# Altium schematic symbol library ZZQ_Schlib.SchLib: 86 symbols (part 1 of 3)
Pins are listed as number, name and electrical type; pins without a type are passive.

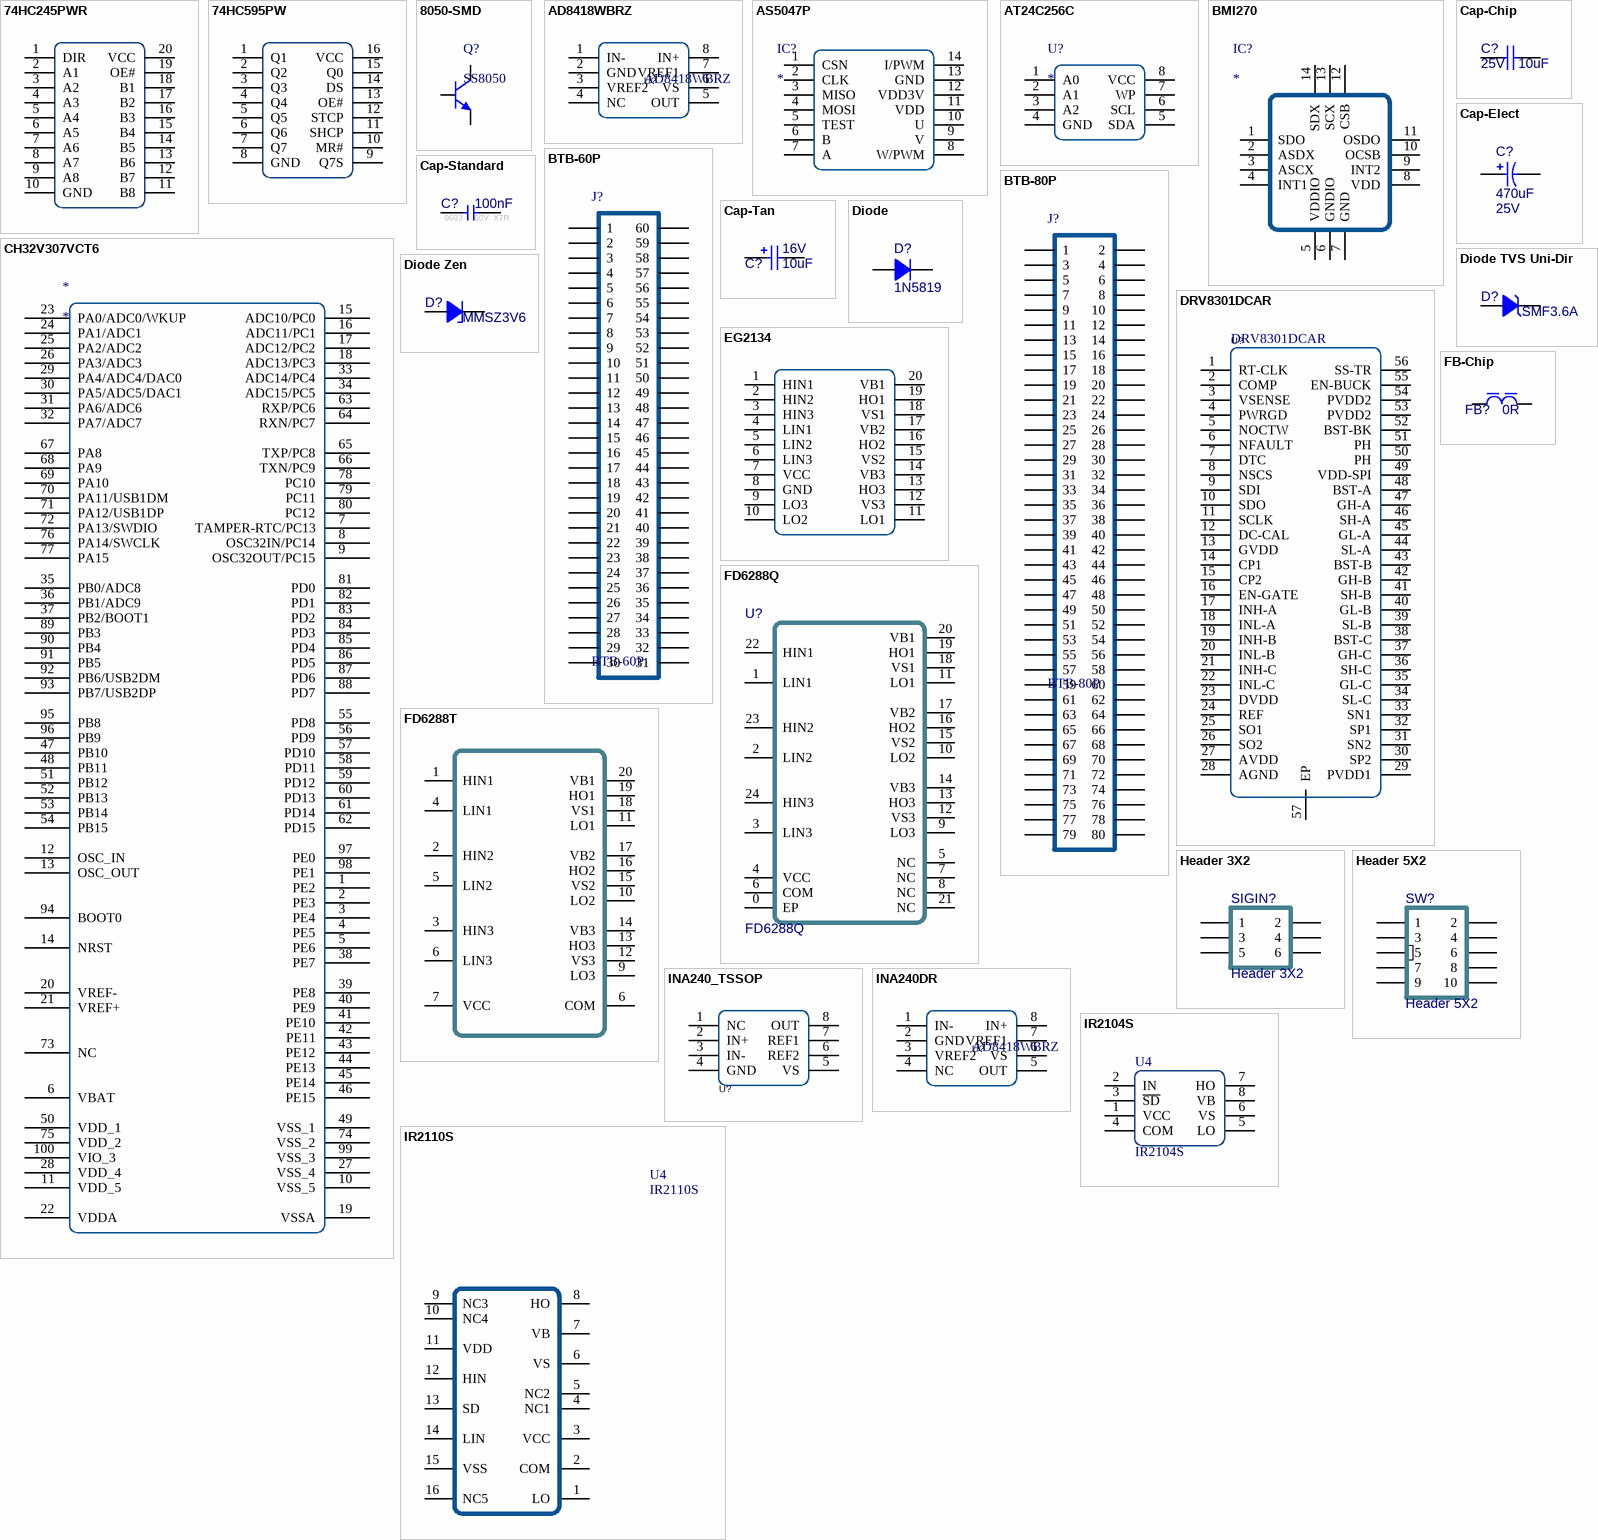
[diagram p0: symbols 74HC245PWR to IR2110S]

## 74HC245PWR
designator U7, comment 74HC595PW,118  (value not drawn)
Name: 74HC245PWR; Manufacturer Part: 74HC245PWR
footprint TSSOP20_P0.65-EP (TSOP, 20-Leads, Body 6.5x4.4mm, Pitch 0.65mm, IPC Medium Density)
pins: 1 DIR, 2 A1, 3 A2, 4 A3, 5 A4, 6 A5, 7 A6, 8 A7, 9 A8, 10 GND, 11 B8, 12 B7, 13 B6, 14 B5, 15 B4, 16 B3, 17 B2, 18 B1, 19 OE#, 20 VCC

## 74HC595PW
designator U?, comment 74HC595PW,118  (value not drawn)
Manufacturer: Nexperia(安世); Add into BOM: yes; Output Type: 三态; Function: 串行至串行或并行; Supply Voltage: 2V~6V; Name: 74HC595PW,118; Symbol: 74HC595PW,118; Device: 74HC595PW,118; LCSC Part Name: 74HC595PW,118; Supplier Part: C5948; Manufacturer Part: 74HC595PW,118; Supplier Footprint: TSSOP-16; JLCPCB Part Class: Extended Part; Datasheet: https://atta.szlcsc.com/upload/public/pdf/source/20180816/C5948_F1853EC44A4F17655997C4FF6169FA63.pdf; Supplier: LCSC; Convert to PCB: yes; Series: 74HC; Operating Temperature: -40℃~+125℃
pins: 1 Q1, 2 Q2, 3 Q3, 4 Q4, 5 Q5, 6 Q6, 7 Q7, 8 GND, 9 Q7S, 10 MR#, 11 SHCP, 12 STCP, 13 OE#, 14 DS, 15 Q0, 16 VCC

## 8050-SMD
designator Q?, comment SS8050
高频放大-NPN型; 参数: 40V 1.5A 1W 100MHZ; 联系下单店铺卖家 免费帮你查找封装: 联系下单店铺卖家 免费技术支持; BOM名称: 高频放大-NPN型
pins: 1 B, 2 E, 3 C

## AD8418WBRZ
designator U?
Manufacturer: ADI(亚德诺)/LINEAR(凌特); Name: AD8418BRMZ; Add into BOM: yes; Symbol: AD8418BRMZ; Device: AD8418BRMZ; LCSC Part Name: AD8418BRMZ; Supplier Part: C107356; Manufacturer Part: AD8418BRMZ; Supplier Footprint: MSOP-8; JLCPCB Part Class: Extended Part; Datasheet: https://atta.szlcsc.com/upload/public/pdf/source/20180126/C107356_15169557868681308826.pdf; Supplier: LCSC; Convert to PCB: yes
footprint LC-SOP-8_150mil
pins: 1 IN-, 2 GND, 3 VREF2, 4 NC, 5 OUT, 6 VS, 7 VREF1, 8 IN+

## AS5047P
designator IC?
Integrated Circuit; Manufacturer_Name: ams OSRAM; Manufacturer_Part_Number: AS5047P-ATSM; Datasheet Link: https://datasheet.datasheetarchive.com/originals/distributors/DKDS-7/120640.pdf; Height: 1.2mm; Mouser Part Number: 985-AS5047P-ATSM; Mouser Price/Stock: https://www.mouser.co.uk/ProductDetail/ams-OSRAM/AS5047P-ATSM?qs=cGEy3R83DS8fzNOVLHtOgg%3D%3D; Arrow Part Number: AS5047P-ATSM; Arrow Price/Stock: https://www.arrow.com/en/products/as5047p-atsm/ams-osram?region=nac
footprint AS5047P (Footprint not found)
pins: 1 CSN, 2 CLK, 3 MISO, 4 MOSI, 5 TEST, 6 B, 7 A, 8 W/PWM, 9 V, 10 U, 11 VDD, 12 VDD3V, 13 GND, 14 I/PWM

## AT24C256C
designator U?
footprint LC-SOIC-8_150mil
pins: 1 A0 (power) "Output for the regulator. A small capacitor (total typical capacitance >= 2.0uF ceramic) is needed from this pin to ground to assure stability.", 2 A1 (power) "Output for the regulator. A small capacitor (total typical capacitance >= 2.0uF ceramic) is needed from this pin to ground to assure stability.", 3 A2 (power) "Output for the regulator. A small capacitor (total typical capacitance >= 2.0uF ceramic) is needed from this pin to ground to assure stability.", 4 GND (power) "Output for the regulator. A small capacitor (total typical capacitance >= 2.0uF ceramic) is needed from this pin to ground to assure stability.", 5 SDA (power) "Output for the regulator. A small capacitor (total typical capacitance >= 2.0uF ceramic) is needed from this pin to ground to assure stability.", 6 SCL (power) "Output for the regulator. A small capacitor (total typical capacitance >= 2.0uF ceramic) is needed from this pin to ground to assure stability.", 7 WP (power) "Output for the regulator. A small capacitor (total typical capacitance >= 2.0uF ceramic) is needed from this pin to ground to assure stability.", 8 VCC (power) "Output for the regulator. A small capacitor (total typical capacitance >= 2.0uF ceramic) is needed from this pin to ground to assure stability."

## BMI270
designator IC?
Integrated Circuit; Manufacturer_Name: BOSCH; Manufacturer_Part_Number: BMI270; Datasheet Link: https://www.mouser.de/datasheet/2/783/BST-BMI270-FL000-1530947.pdf; Height: 0.87mm; Mouser Part Number: 262-BMI270; Mouser Price/Stock: https://www.mouser.co.uk/ProductDetail/Bosch-Sensortec/BMI270?qs=u16ybLDytRYIj%252BjQEee88A%3D%3D; Arrow Part Number: BMI270; Arrow Price/Stock: https://www.arrow.com/en/products/bmi270/bosch?region=nac
footprint QFN50P300X250X87-14N
pins: 1 SDO, 2 ASDX, 3 ASCX, 4 INT1, 5 VDDIO, 6 GNDIO, 7 GND, 8 VDD, 9 INT2, 10 OCSB, 11 OSDO, 12 CSB, 13 SCX, 14 SDX

## BTB-60P
designator J?
footprint 3710F060046G3FT01 (PIN:0.8mm;SOP;FEMALE)
pins: 1, 2, 3, 4, 5, 6, 7, 8, 9, 10, 11, 12, 13, 14, 15, 16, 17, 18, 19, 20, 21, 22, 23, 24, 25, 26, 27, 28, 29, 30, 31, 32, 33, 34, 35, 36, 37, 38, 39, 40, 41, 42, 43, 44, 45, 46, 47, 48, 49, 50, 51, 52, 53, 54, 55, 56, 57, 58, 59, 60

## BTB-80P
designator J?
pins: 1, 2, 3, 4, 5, 6, 7, 8, 9, 10, 11, 12, 13, 14, 15, 16, 17, 18, 19, 20, 21, 22, 23, 24, 25, 26, 27, 28, 29, 30, 31, 32, 33, 34, 35, 36, 37, 38, 39, 40, 41, 42, 43, 44, 45, 46, 47, 48, 49, 50, 51, 52, 53, 54, 55, 56, 57, 58, 59, 60, 61, 62, 63, 64, 65, 66, 67, 68, 69, 70, 71, 72, 73, 74, 75, 76, 77, 78, 79, 80

## Cap-Chip
designator C?, comment value 10uF  Voltage: 25V  (hidden comment: 10uF ±10% 25V)
贴片电容; Published: 2020-12-18; Revision: V1.1; Tolerance: ±10%
pins: 1, 2

## Cap-Elect
designator C?, comment value 470uF  Voltage: 25V  (hidden comment: 470uF 25V)
Polarized Capacitor (Radial); Published: 8-Jun-2000; Revision: July-2002: Re-released for DXP Platform.; Publisher: Altium Limited; Price(RMB): 0.000
pins: 1, 2

## Cap-Standard
designator C?, comment value 100nF  FootPrint: 0603  Voltage: 50V  Type: X7R  (hidden comment: 100nF 50V X7R)
贴片瓷片电容; MLCC; 0603(1608);; Revision: V1.0
pins: 1, 2

## Cap-Tan
designator C?, comment value 10uF  Voltage: 16V  (hidden comment: 10uF 16V)
Tantalum Capacitor; Published: 8-Jun-2000; Revision: July-2002: Re-released for DXP Platform.; Publisher: Altium Limited; Price(RMB): 0.000
pins: 1, 2

## CH32V307VCT6
designator *
pins: 1 PE2, 2 PE3, 3 PE4, 4 PE5, 5 PE6, 6 VBAT, 7 TAMPER-RTC/PC13, 8 OSC32IN/PC14, 9 OSC32OUT/PC15, 10 VSS_5, 11 VDD_5, 12 OSC_IN, 13 OSC_OUT, 14 NRST, 15 ADC10/PC0, 16 ADC11/PC1, 17 ADC12/PC2, 18 ADC13/PC3, 19 VSSA, 20 VREF-, 21 VREF+, 22 VDDA, 23 PA0/ADC0/WKUP, 24 PA1/ADC1, 25 PA2/ADC2, 26 PA3/ADC3, 27 VSS_4, 28 VDD_4, 29 PA4/ADC4/DAC0, 30 PA5/ADC5/DAC1, 31 PA6/ADC6, 32 PA7/ADC7, 33 ADC14/PC4, 34 ADC15/PC5, 35 PB0/ADC8, 36 PB1/ADC9, 37 PB2/BOOT1, 38 PE7, 39 PE8, 40 PE9, 41 PE10, 42 PE11, 43 PE12, 44 PE13, 45 PE14, 46 PE15, 47 PB10, 48 PB11, 49 VSS_1, 50 VDD_1, 51 PB12, 52 PB13, 53 PB14, 54 PB15, 55 PD8, 56 PD9, 57 PD10, 58 PD11, 59 PD12, 60 PD13, 61 PD14, 62 PD15, 63 RXP/PC6, 64 RXN/PC7, 65 TXP/PC8, 66 TXN/PC9, 67 PA8, 68 PA9, 69 PA10, 70 PA11/USB1DM, 71 PA12/USB1DP, 72 PA13/SWDIO, 73 NC, 74 VSS_2, 75 VDD_2, 76 PA14/SWCLK, 77 PA15, 78 PC10, 79 PC11, 80 PC12, 81 PD0, 82 PD1, 83 PD2, 84 PD3, 85 PD4, 86 PD5, 87 PD6, 88 PD7, 89 PB3, 90 PB4, 91 PB5, 92 PB6/USB2DM, 93 PB7/USB2DP, 94 BOOT0, 95 PB8, 96 PB9, 97 PE0, 98 PE1, 99 VSS_3, 100 VIO_3

## Diode
designator D?, comment 1N5819
普通二极管 Diode; Imax: 500mA; Published: 8-Jun-2000; Revision: July-2002: Re-released for DXP Platform.; Publisher: Altium Limited; Price(RMB): 0.000
pins: 1, 2

## Diode TVS Uni-Dir
designator D?, comment SMF3.6A
TRANSIENT VOLTAGE  SUPPRESSOR DIODE; Imax: 500mA; Published: 8-Jun-2000; Publisher: Altium Limited; Price(RMB): 0.000
pins: 1, 2

## Diode Zen
designator D?, comment MMSZ3V6
稳压二极管 齐纳二极管  Zener Diode; Published: 8-Jun-2000; Revision: July-2002: Re-released for DXP Platform.; Publisher: Altium Limited; Price(RMB): 0.000
pins: 1, 2

## DRV8301DCAR
designator U?
Manufacturer: TI(德州仪器); Add into BOM: yes; Supply Voltage: 6V~60V; Interface: SPI,STEP/DIR; Name: DRV8301DCAR; Symbol: DRV8301DCAR; Device: DRV8301DCAR; LCSC Part Name: DRV8301DCAR; Supplier Part: C98969; Manufacturer Part: DRV8301DCAR; Supplier Footprint: HTSSOP-56-6mm; JLCPCB Part Class: Extended Part; Datasheet: https://atta.szlcsc.com/upload/public/pdf/source/20180716/C98969_BB8CF07B1892F5E66C75CBC0D9FDECDB.pdf; Supplier: LCSC; Convert to PCB: yes; Type: 无刷直流BLDC; Output Current: -; Operating Temperature: -40℃~+125℃@(Ta)
pins: 1 RT-CLK, 2 COMP, 3 VSENSE, 4 PWRGD, 5 NOCTW, 6 NFAULT, 7 DTC, 8 NSCS, 9 SDI, 10 SDO, 11 SCLK, 12 DC-CAL, 13 GVDD, 14 CP1, 15 CP2, 16 EN-GATE, 17 INH-A, 18 INL-A, 19 INH-B, 20 INL-B, 21 INH-C, 22 INL-C, 23 DVDD, 24 REF, 25 SO1, 26 SO2, 27 AVDD, 28 AGND, 29 PVDD1, 30 SP2, 31 SN2, 32 SP1, 33 SN1, 34 SL-C, 35 GL-C, 36 SH-C, 37 GH-C, 38 BST-C, 39 SL-B, 40 GL-B, 41 SH-B, 42 GH-B, 43 BST-B, 44 SL-A, 45 GL-A, 46 SH-A, 47 GH-A, 48 BST-A, 49 VDD-SPI, 50 PH, 51 PH, 52 BST-BK, 53 PVDD2, 54 PVDD2, 55 EN-BUCK, 56 SS-TR, 57 EP

## EG2134
designator ?  (value not drawn)
Symbol: EG2134_C480661; Designer: U?; Device: EG2134_C480661
pins: 1 HIN1, 2 HIN2, 3 HIN3, 4 LIN1, 5 LIN2, 6 LIN3, 7 VCC, 8 GND, 9 LO3, 10 LO2, 11 LO1, 12 VS3, 13 HO3, 14 VB3, 15 VS2, 16 HO2, 17 VB2, 18 VS1, 19 HO1, 20 VB1

## FB-Chip
designator FB?, comment value 0R  (hidden comment: 0R @100MHz 300mA)
贴片磁珠; DCR: .1m; Published: 2020-12-18; Revision: V1.0; Frequency: @100MHz; Imax: 300mA
pins: 1, 2

## FD6288Q
designator U?
FD6288Q 三相栅极驱动器
footprint FD6288Q (24脚，长x宽x高：4x4x1mm，脚距：0.5mm)
pins: 0 EP, 1 LIN1, 2 LIN2, 3 LIN3, 4 VCC, 5 NC, 6 COM, 7 NC, 8 NC, 9 LO3, 10 LO2, 11 LO1, 12 VS3, 13 HO3, 14 VB3, 15 VS2, 16 HO2, 17 VB2, 18 VS1, 19 HO1, 20 VB1, 21 NC, 22 HIN1, 23 HIN2, 24 HIN3

## FD6288T
designator U?  (value not drawn)
Manufacturer: Fortior Tech(峰岹); Symbol: FD6288; Add into BOM: yes; Device: FD6288T; Supplier: LCSC; Manufacturer Part: FD6288T; Supplier Part: C97683; JLCPCB Part Class: Extended Part; LCSC Part Name: FD6288T; Supplier Footprint: TSSOP-20; Datasheet: https://atta.szlcsc.com/upload/public/pdf/source/20180912/C97683_ECE58C9DF7F061C95E95DF4276B152DC.pdf; Convert to PCB: yes
footprint FD6288T
pins: 1 HIN1, 2 HIN2, 3 HIN3, 4 LIN1, 5 LIN2, 6 LIN3, 6 COM, 7 VCC, 9 LO3, 10 LO2, 11 LO1, 12 VS3, 13 HO3, 14 VB3, 15 VS2, 16 HO2, 17 VB2, 18 VS1, 19 HO1, 20 VB1

## Header 3X2
designator SIGIN?
Header, 3-Pin, Dual row; LatestRevisionDate: 17-Jul-2002; LatestRevisionNote: Re-released for DXP Platform.; Publisher: Altium Limited; Price(RMB): 0.00
pins: 1, 2, 3, 4, 5, 6

## Header 5X2
designator SW?
Header, 5-Pin, Dual row; LatestRevisionDate: 17-Jul-2002; LatestRevisionNote: Re-released for DXP Platform.; Publisher: Altium Limited; Price(RMB): 0.00
pins: 1, 2, 3, 4, 5, 6, 7, 8, 9, 10

## INA240_TSSOP
designator U?  (value not drawn)
Manufacturer: ADI(亚德诺)/LINEAR(凌特); Name: AD8418BRMZ; Add into BOM: yes; Symbol: AD8418BRMZ; Device: AD8418BRMZ; LCSC Part Name: AD8418BRMZ; Supplier Part: C107356; Manufacturer Part: AD8418BRMZ; Supplier Footprint: MSOP-8; JLCPCB Part Class: Extended Part; Datasheet: https://atta.szlcsc.com/upload/public/pdf/source/20180126/C107356_15169557868681308826.pdf; Supplier: LCSC; Convert to PCB: yes
footprint TSSOP8 (TSSOP-8_L4.4-W3.0-P0.65 封装库来自淘宝卖家 ID：黄晶宝石)
pins: 1 NC, 2 IN+, 3 IN-, 4 GND, 5 VS, 6 REF2, 7 REF1, 8 OUT

## INA240DR
designator U?, comment AD8418WBRZ
Manufacturer: ADI(亚德诺)/LINEAR(凌特); Name: AD8418BRMZ; Add into BOM: yes; Symbol: AD8418BRMZ; Device: AD8418BRMZ; LCSC Part Name: AD8418BRMZ; Supplier Part: C107356; Manufacturer Part: AD8418BRMZ; Supplier Footprint: MSOP-8; JLCPCB Part Class: Extended Part; Datasheet: https://atta.szlcsc.com/upload/public/pdf/source/20180126/C107356_15169557868681308826.pdf; Supplier: LCSC; Convert to PCB: yes
footprint LC-SOP-8_150mil
pins: 1 IN-, 2 GND, 3 VREF2, 4 NC, 5 OUT, 6 VS, 7 VREF1, 8 IN+

## IR2104S
designator U4
High and Low Side Driver; Published: 8-Jun-2000; LatestRevisionDate: 13-Apr-2006; LatestRevisionNote: IPC-7351 Footprint Added.; DatasheetVersion: PD600461; PackageVersion: Feb-2001; PackageReference: SO-8; Publisher: Altium Limited; PackageDescription: 8-Pin Plastic Small Outline Integrated Circuit 1.27 mm Pitch; Code_JEDEC: MS-012-AA; Code_IPC: SOIC127P600-8; ComponentLink1Description: Manufacturer Link; ComponentLink1URL: http://www.irf.com/; ComponentLink2Description: Datasheet; ComponentLink2URL: http://www.irf.com/product-info/datasheets/data/ir2104.pdf
footprint LC-SOP-8_150mil
pins: 1 VCC (power), 2 IN (power), 3 ~{SD} (power), 4 COM (power), 5 LO (power), 6 VS (power), 7 HO (power), 8 VB (power)

## IR2110S
designator U4
High and Low Side Driver; Manufacturer: Infineon Technologies; PackageReference: SOIC 16W; Manufacturer Order Number: IR2110S
footprint SOIC-16W (联系卖家 免费查找封装)
pins: 1 LO "Low side gate drive output", 2 COM "Low side return", 3 VCC "Low side supply", 4 NC1 "No Connection", 5 NC2 "No Connection", 6 VS "High side floating supply return", 7 VB "High side floating supply", 8 HO "High side gate drive output", 9 NC3 "No Connection", 10 NC4 "No Connection", 11 VDD "Logic Supply", 12 HIN "Logic input for high side gate driver outputs (HO), in phase", 13 SD "Logic input for shutdown", 14 LIN "Logic input for low side gate driver outputs (LO), in phase", 15 VSS "Logic ground", 16 NC5 "No Connection"

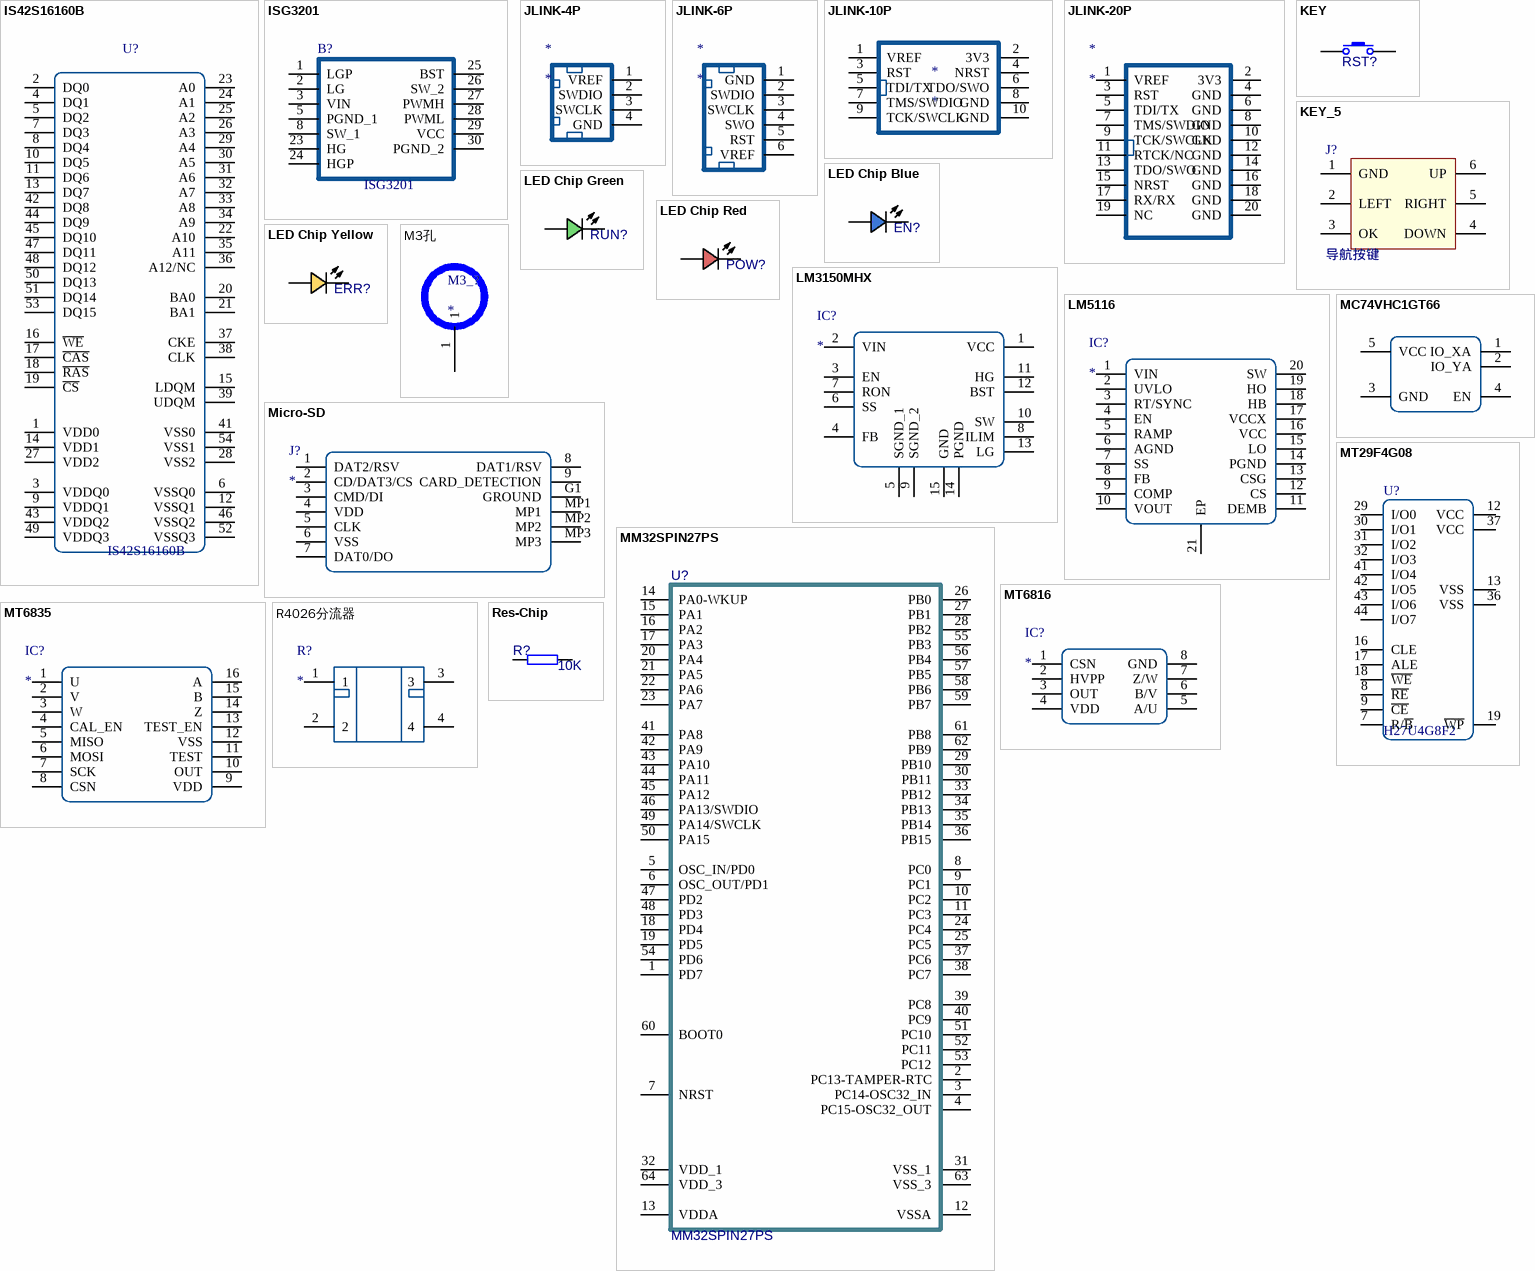
[diagram p1: symbols IS42S16160B to Res-Chip]

## IS42S16160B
designator U?
32MB SDRAM
footprint TSOP80P1180X120-54N (TSOP, 54-Leads, Body 22.22x10.16mm, Pitch 0.80mm, IPC Medium Density)
pins: 1 VDD0 (power), 2 DQ0 (power), 3 VDDQ0 (power), 4 DQ1 (power), 5 DQ2 (power), 6 VSSQ0 (power), 7 DQ3 (power), 8 DQ4 (power), 9 VDDQ1 (power), 10 DQ5 (power), 11 DQ6 (power), 12 VSSQ1 (power), 13 DQ7 (power), 14 VDD1 (power), 15 LDQM (power), 16 ~{WE} (power), 17 ~{CAS} (power), 18 ~{RAS} (power), 19 ~{CS} (power), 20 BA0 (power), 21 BA1 (power), 22 A10 (power), 23 A0 (power), 24 A1 (power), 25 A2 (power), 26 A3 (power), 27 VDD2 (power), 28 VSS2 (power), 29 A4 (power), 30 A5 (power), 31 A6 (power), 32 A7 (power), 33 A8 (power), 34 A9 (power), 35 A11 (power), 36 A12/NC (power), 37 CKE (power), 38 CLK (power), 39 UDQM (power), 41 VSS0 (power), 42 DQ8 (power), 43 VDDQ2 (power), 44 DQ9 (power), 45 DQ10 (power), 46 VSSQ2 (power), 47 DQ11 (power), 48 DQ12 (power), 49 VDDQ3 (power), 50 DQ13 (power), 51 DQ14 (power), 52 VSSQ3 (power), 53 DQ15 (power), 54 VSS1 (power)
2 alternate drawings of the same symbol

## ISG3201
designator B?
100V Half-Bridge Solid-GaN Integrating Gate Driver; Manufacturer_Name: Innoscience; Geometry.Height: 1.22mm; Manufacturer_Part_Number: ISG3201; Mouser Part Number: *; Mouser Price/Stock: *; Arrow Part Number: *; Arrow Price/Stock: *; Datasheet Link: https://ynsk.shwebspace.com/uploads/20230720_ISG3201_Datasheet_Rev_1.0.pdf
footprint ISG3201
pins: 1 LGP, 2 LG, 3 VIN, 5 PGND_1, 8 SW_1, 23 HG, 24 HGP, 25 BST, 26 SW_2, 27 PWMH, 28 PWML, 29 VCC, 30 PGND_2

## JLINK-4P
designator *
XH2.54-4P
footprint XH2.54-WS-4P (长：15mm，宽：8mm，高：6.1mm   淘宝ID:黄晶宝石   店铺网址:https://shop463601444.taobao.com)
pins: 1 VREF, 2 SWDIO, 3 SWCLK, 4 GND

## JLINK-6P
designator *
XH2.54-6P
footprint XH2.54-WS-6P (长：20mm，宽：8mm，高：6.1mm)
pins: 1 GND, 2 SWDIO, 3 SWCLK, 4 SWO, 5 RST, 6 VREF

## JLINK-10P
designator *
footprint JLINK-10P-JTAG
footprint JLINK-10P-SWD
pins: 1 VREF, 2 3V3, 3 RST, 4 NRST, 5 TDI/TX, 6 TDO/SWO, 7 TMS/SWDIO, 8 GND, 9 TCK/SWCLK, 10 GND

## JLINK-20P
designator *
footprint JLINK-20P-JTAG
footprint JLINK-20P-SWD
pins: 1 VREF, 2 3V3, 3 RST, 4 GND, 5 TDI/TX, 6 GND, 7 TMS/SWDIO, 8 GND, 9 TCK/SWCLK, 10 GND, 11 RTCK/NC, 12 GND, 13 TDO/SWO, 14 GND, 15 NRST, 16 GND, 17 RX/RX, 18 GND, 19 NC, 20 GND

## KEY
designator RST?, comment Button  (value not drawn)
按键; Published: 24-Mar-1999; Publisher: Altium Limited; Price(RMB): 0.000
footprint KEY-2-SMD-3*6 (3x6贴片按键封装)
footprint KEY-2-SMD-3*4 (龟仔按键 3*4)
footprint PTS810-3*4-CurvePin (3*4 白色 汽车遥控器贴片按键 包脚)
pins: 1, 2

## KEY_5
designator J?, comment 导航按键
五向导航按键
footprint 五轴 (6脚，长：10.5，宽：10，高：9mm)
pins: 1 GND, 2 LEFT, 3 OK, 4 DOWN, 5 RIGHT, 6 UP

## LED Chip Blue
designator EN?, comment 蓝色贴片LED  (value not drawn)
Published: 8-Jun-2000; Revision: July-2002: Re-released for DXP Platform.; Publisher: Altium Limited; Price(RMB): 0.00; Color: Blue
pins: A, K

## LED Chip Green
designator RUN?, comment 翠绿贴片LED  (value not drawn)
Published: 8-Jun-2000; Revision: July-2002: Re-released for DXP Platform.; Publisher: Altium Limited; Price(RMB): 0.00
pins: A, K

## LED Chip Red
designator POW?, comment 红色贴片LED  (value not drawn)
Published: 8-Jun-2000; Revision: July-2002: Re-released for DXP Platform.; Publisher: Altium Limited; Price(RMB): 0.00
pins: A, K

## LED Chip Yellow
designator ERR?, comment 黄色贴片LED  (value not drawn)
Published: 8-Jun-2000; Revision: July-2002: Re-released for DXP Platform.; Publisher: Altium Limited; Price(RMB): 0.00
pins: A, K

## LM3150MHX
designator IC?
Integrated Circuit; Manufacturer_Name: Texas Instruments; Manufacturer_Part_Number: LM3150MHX/NOPB; Datasheet Link: http://www.ti.com/lit/gpn/lm3150; Height: 1.1mm; Mouser Part Number: 926-LM3150MHX/NOPB; Mouser Price/Stock: https://www.mouser.co.uk/ProductDetail/Texas-Instruments/LM3150MHX-NOPB?qs=X1J7HmVL2ZFTqNmJCFeaVA%3D%3D; Arrow Part Number: LM3150MHX/NOPB; Arrow Price/Stock: https://www.arrow.com/en/products/lm3150mhxnopb/texas-instruments?region=nac
footprint SOP65P640X110-15N
pins: 1 VCC, 2 VIN, 3 EN, 4 FB, 5 SGND_1, 6 SS, 7 RON, 8 ILIM, 9 SGND_2, 10 SW, 11 HG, 12 BST, 13 LG, 14 PGND, 15 GND

## LM5116
designator IC?
Integrated Circuit; Manufacturer_Name: Texas Instruments; Manufacturer_Part_Number: LM5116MHX/NOPB; Datasheet Link: http://www.ti.com/lit/gpn/lm5116; Height: 1.1mm; Mouser Part Number: 926-LM5116MHX/NOPB; Mouser Price/Stock: https://www.mouser.co.uk/ProductDetail/Texas-Instruments/LM5116MHX-NOPB?qs=QbsRYf82W3EaCl%2FW15P7yA%3D%3D; Arrow Part Number: LM5116MHX/NOPB; Arrow Price/Stock: https://www.arrow.com/en/products/lm5116mhxnopb/texas-instruments?region=nac
footprint LM5116MHX
pins: 1 VIN, 2 UVLO, 3 RT/SYNC, 4 EN, 5 RAMP, 6 AGND, 7 SS, 8 FB, 9 COMP, 10 VOUT, 11 DEMB, 12 CS, 13 CSG, 14 PGND, 15 LO, 16 VCC, 17 VCCX, 18 HB, 19 HO, 20 SW, 21 EP

## M3孔
designator M3_?
pins: 1

## MC74VHC1GT66
designator U?  (value not drawn)
Manufacturer: ADI(亚德诺)/LINEAR(凌特); Name: AD8418BRMZ; Add into BOM: yes; Symbol: AD8418BRMZ; Device: AD8418BRMZ; LCSC Part Name: AD8418BRMZ; Supplier Part: C107356; Manufacturer Part: AD8418BRMZ; Supplier Footprint: MSOP-8; JLCPCB Part Class: Extended Part; Datasheet: https://atta.szlcsc.com/upload/public/pdf/source/20180126/C107356_15169557868681308826.pdf; Supplier: LCSC; Convert to PCB: yes
pins: 1 IO_XA, 2 IO_YA, 3 GND, 4 EN, 5 VCC

## Micro-SD
designator J?
Connector; Manufacturer_Name: 100y; Manufacturer_Part_Number: TFP09-2-12B; Datasheet Link: http://images.100y.com.tw/pdf_file/10-TFP09-2-12B.pdf; Height: 2mm
footprint Micro-SD
pins: 1 DAT2/RSV, 2 CD/DAT3/CS, 3 CMD/DI, 4 VDD, 5 CLK, 6 VSS, 7 DAT0/DO, 8 DAT1/RSV, 9 CARD_DETECTION, G1 GROUND, MP1, MP2, MP3

## MM32SPIN27PS
designator U?
MM32SPIN27PS 64Pin 96M M0
footprint LQFP64_L (Thin QFP, 64-Leads, Body 10x10mm, Pitch 0.5mm, IPC High Density)
footprint LQFP64_M (Thin QFP, 64-Leads, Body 10x10mm, Pitch 0.5mm, IPC Low Density)
footprint LQFP64_N (Thin QFP, 64-Leads, Body 10x10mm, Pitch 0.5mm, IPC Medium Density)
pins: 1 PD7, 2 PC13-TAMPER-RTC, 3 PC14-OSC32_IN, 4 PC15-OSC32_OUT, 5 OSC_IN/PD0, 6 OSC_OUT/PD1, 7 NRST, 8 PC0, 9 PC1, 10 PC2, 11 PC3, 12 VSSA, 13 VDDA, 14 PA0-WKUP, 15 PA1, 16 PA2, 17 PA3, 18 PD4, 19 PD5, 20 PA4, 21 PA5, 22 PA6, 23 PA7, 24 PC4, 25 PC5, 26 PB0, 27 PB1, 28 PB2, 29 PB10, 30 PB11, 31 VSS_1, 32 VDD_1, 33 PB12, 34 PB13, 35 PB14, 36 PB15, 37 PC6, 38 PC7, 39 PC8, 40 PC9, 41 PA8, 42 PA9, 43 PA10, 44 PA11, 45 PA12, 46 PA13/SWDIO, 47 PD2, 48 PD3, 49 PA14/SWCLK, 50 PA15, 51 PC10, 52 PC11, 53 PC12, 54 PD6, 55 PB3, 56 PB4, 57 PB5, 58 PB6, 59 PB7, 60 BOOT0, 61 PB8, 62 PB9, 63 VSS_3, 64 VDD_3

## MT29F4G08
designator U?, comment H27U4G8F2
NAND FLASH
footprint TSOP48
pins: 7 R/~{B}, 8 ~{RE}, 9 ~{CE}, 12 VCC, 13 VSS, 16 CLE, 17 ALE, 18 ~{WE}, 19 ~{WP}, 29 I/O0, 30 I/O1, 31 I/O2, 32 I/O3, 36 VSS, 37 VCC, 41 I/O4, 42 I/O5, 43 I/O6, 44 I/O7

## MT6816
designator IC?
Integrated Circuit; Manufacturer_Name: Magntek; Manufacturer_Part_Number: mt6816; Datasheet Link: http://www.magntek.com.cn/upload/MT6816_Rev.2.0.pdf; Height: 1.75mm
footprint MT6816
pins: 1 CSN, 2 HVPP, 3 OUT, 4 VDD, 5 A/U, 6 B/V, 7 Z/W, 8 GND

## MT6835
designator IC?
Integrated Circuit; Manufacturer_Name: Magn Tek; Manufacturer_Part_Number: MT6835GT-STD; Datasheet Link: https://www.magntek.com.cn/upload/MT6835_Rev.1.2.pdf; Height: 1.2mm
footprint MT6835
pins: 1 U, 2 V, 3 W, 4 CAL_EN, 5 MISO, 6 MOSI, 7 SCK, 8 CSN, 9 VDD, 10 OUT, 11 TEST, 12 VSS, 13 TEST_EN, 14 Z, 15 B, 16 A

## R4026分流器
designator R?
Resistor; Manufacturer_Name: Vishay; Manufacturer_Part_Number: WSLP4026L5000FEA; Datasheet Link: https://www.vishay.com/docs/30180/wslp4026.pdf; Mouser Part Number: 71-WSLP4026L5000FEA; Mouser Price/Stock: https://www.mouser.co.uk/ProductDetail/Vishay-Dale/WSLP4026L5000FEA?qs=rzJGveiEhFM0fibu8GsgSQ%3D%3D; Arrow Part Number: WSLP4026L5000FEA; Arrow Price/Stock: https://www.arrow.com/en/products/wslp4026l5000fea/vishay
footprint WSL4026
pins: 1, 2, 3, 4

## Res-Chip
designator R?, comment value 10K  (hidden comment: 10K ±1%)
贴片电阻; Published: 8-Jun-2000; Revision: July-2002: Re-released for DXP Platform.; Tolerance: ±1%
pins: 1, 2
1 alternate drawing of the same symbol

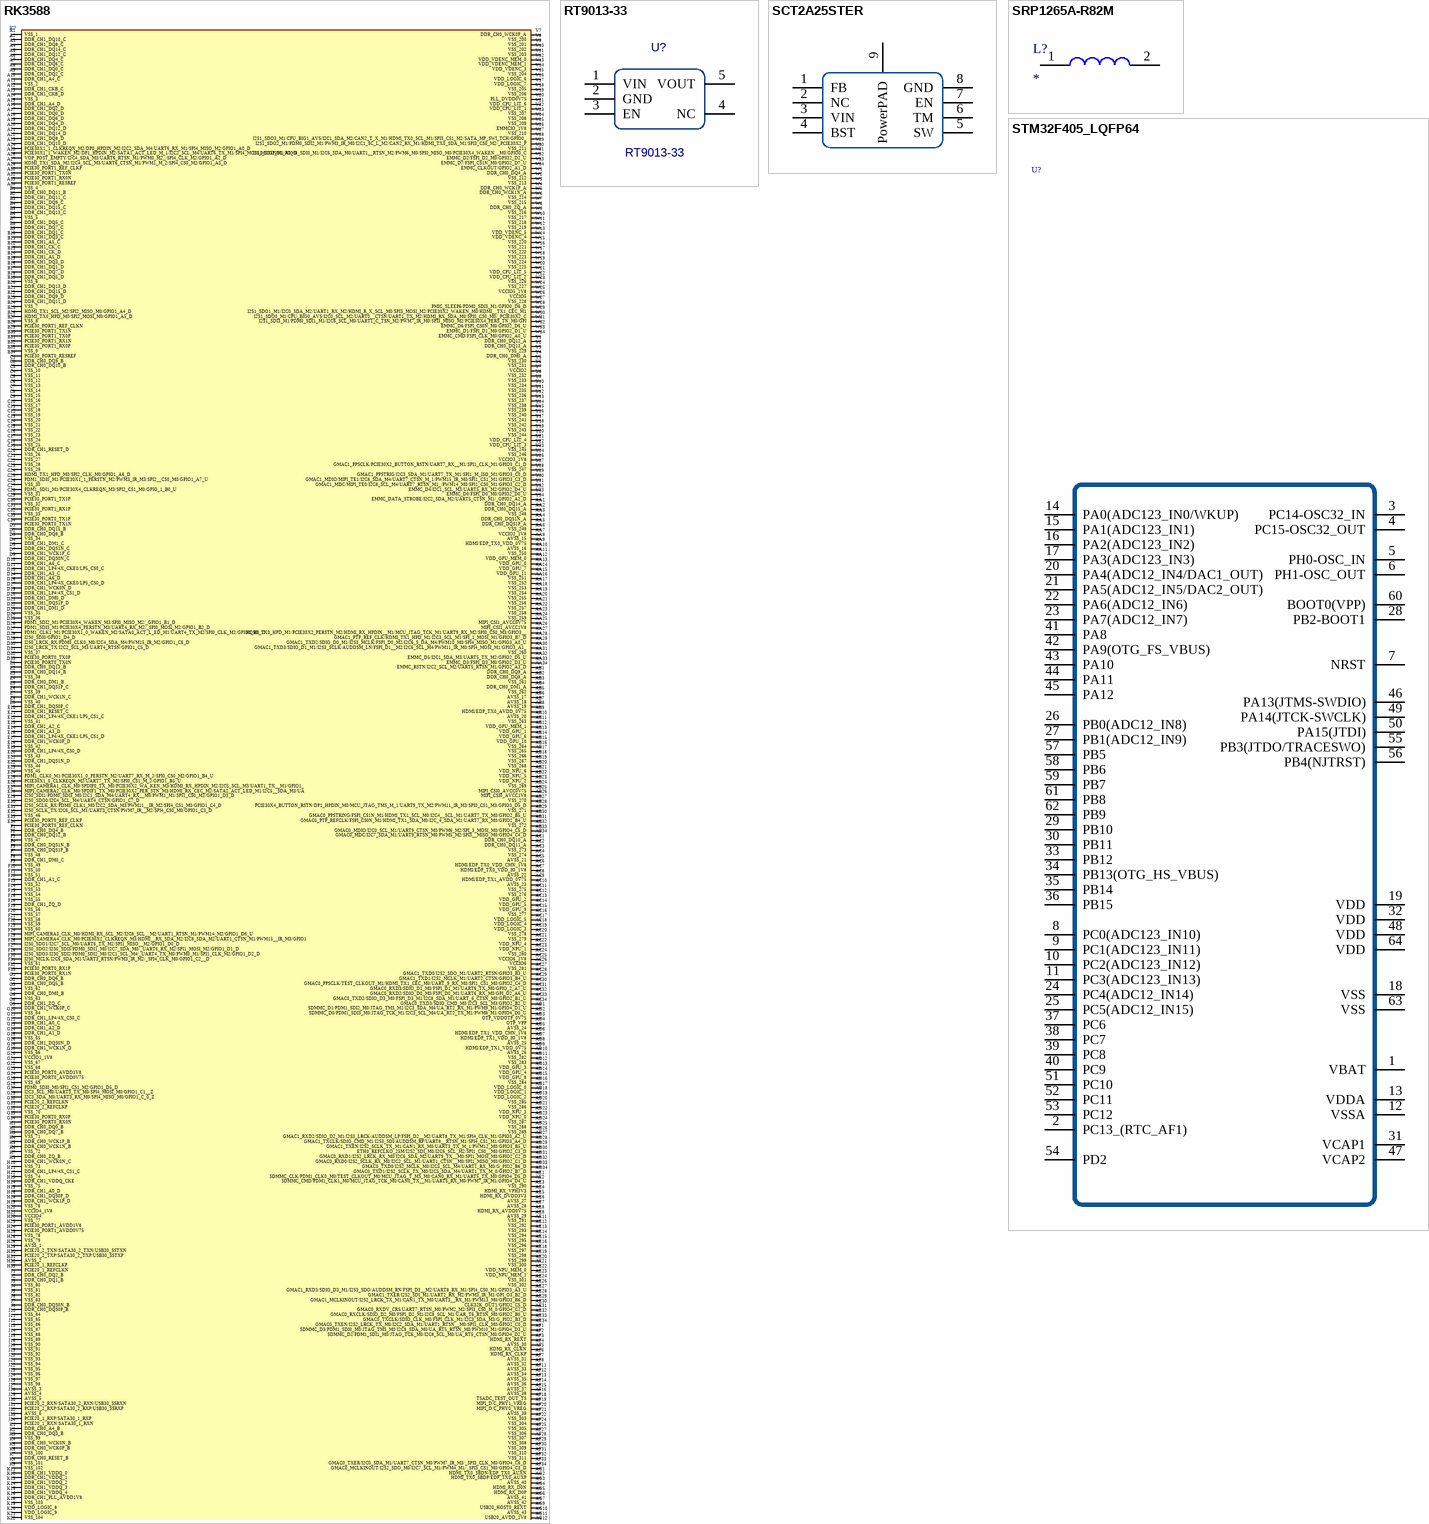
[diagram p2: symbols RK3588 to STM32F405_LQFP64]